# Altium schematic symbol library Gesturelink Schematic Library.SchLib: 48 symbols
Pins are listed as number, name and electrical type; pins without a type are passive.

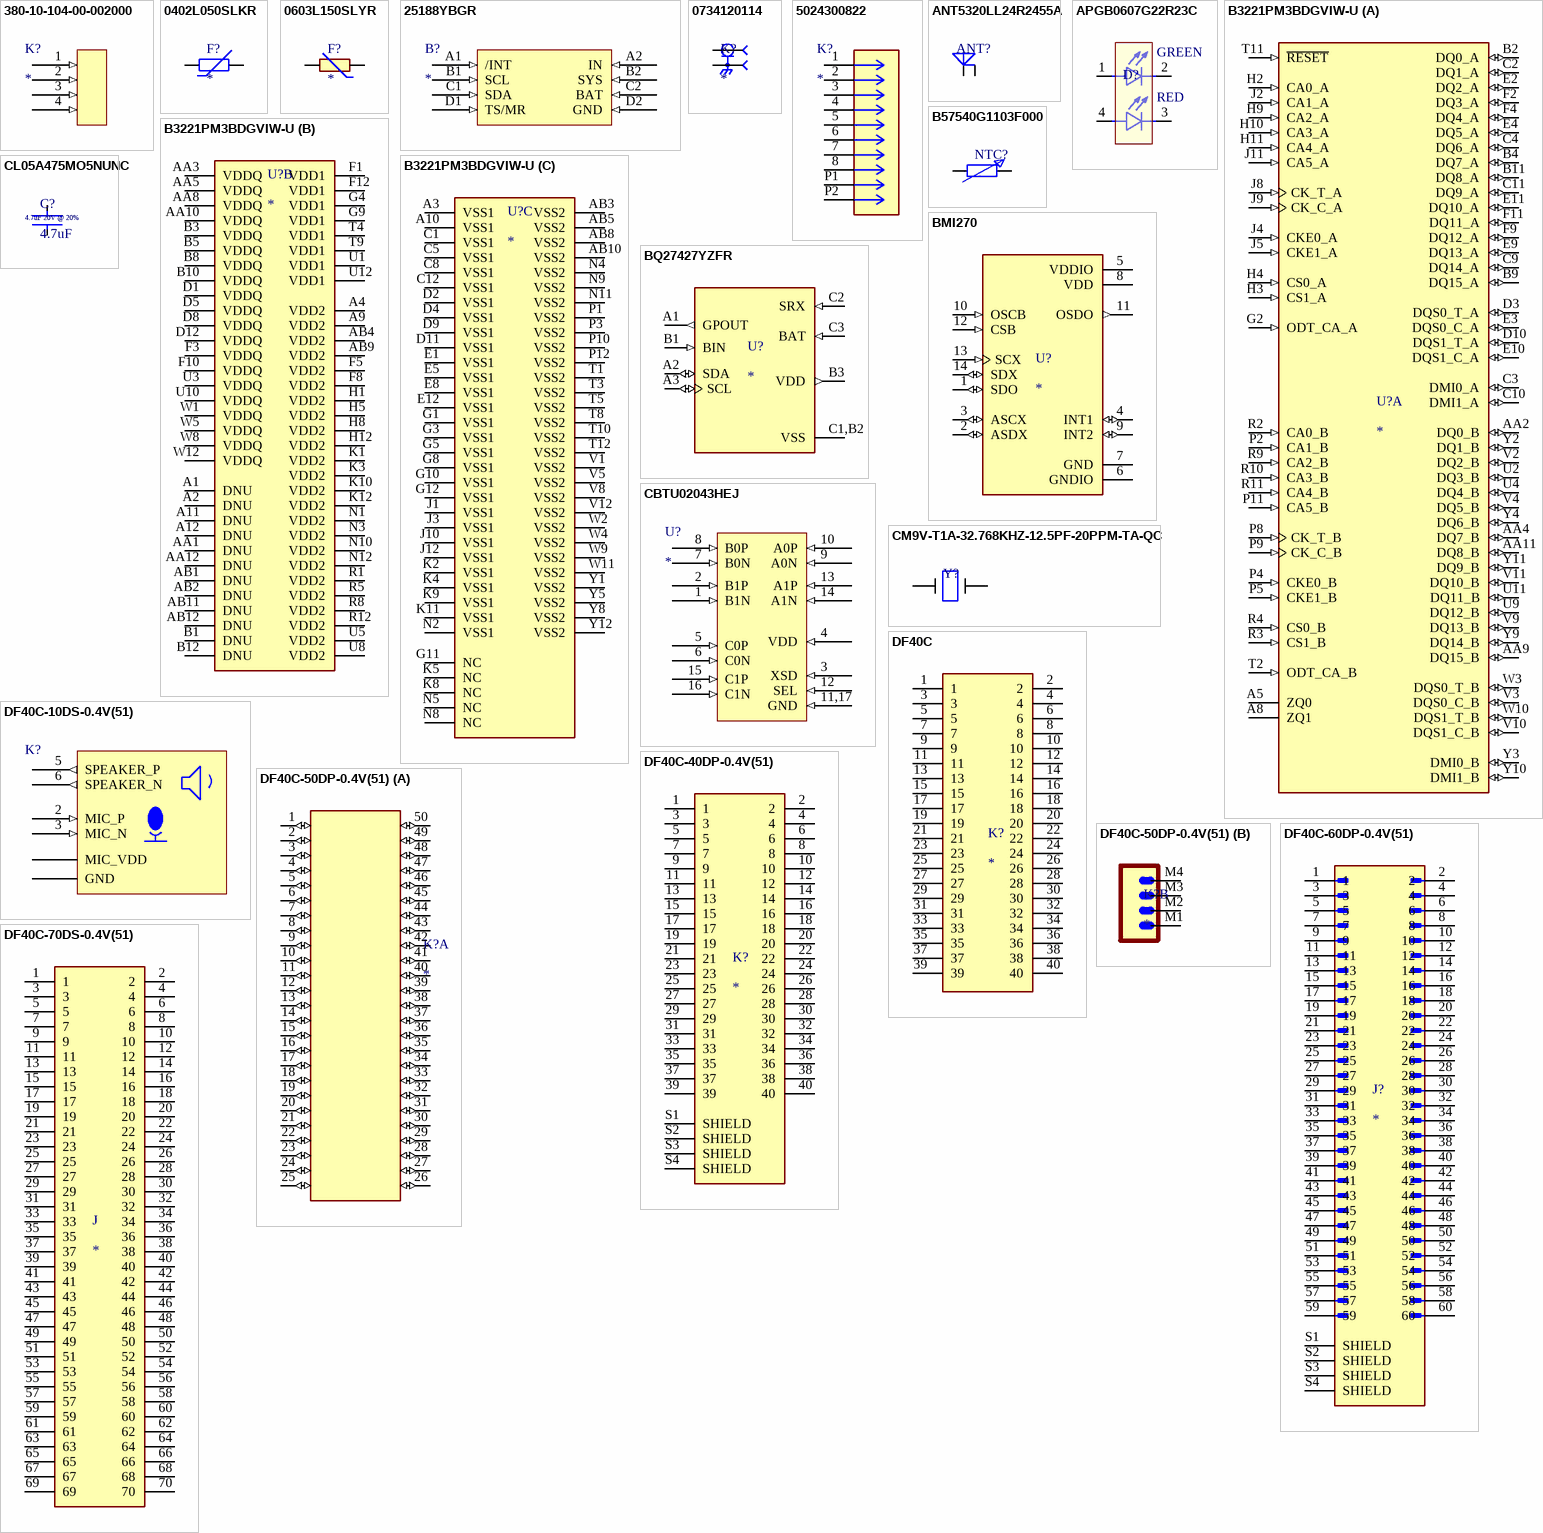
[diagram p0: symbols 380-10-104-00-002000 to DF40C-70DS-0.4V(51)]

## 380-10-104-00-002000
designator K?
4 Position Header Connector Solder Cup Gold; ComponentLink1Description: New link; ComponentLink1URL: https://www.digikey.com.au/en/products/detail/mill-max-manufacturing-corp/380-10-104-00-002000/8019517; Supplier 1: Digikey; Supplier Part Number 1: ED10254-ND
footprint 380-10-104-00-002000
pins: 1 (in), 2 (in), 3 (in), 4 (in)

## 0402L050SLKR
designator F?
Polymeric PTC Resettable Fuse 6V 500 mA Ih Surface Mount 0402 (1005 Metric), Concave; ComponentLink1Description: New link; ComponentLink1URL: https://www.digikey.com.au/en/products/detail/littelfuse-inc/0402L050SLKR/3593837; Supplier 1: Digikey; Supplier Part Number 1: F5759CT-ND
footprint RESC1005X04N (Chip Resistor, Body 1.0x0.5mm, IPC Medium Density (0402 Imperial))
pins: 1, 2

## 0603L150SLYR
designator F?
Polymeric PTC Resettable Fuse 6V 1.5 A Ih Surface Mount 0603 (1608 Metric), Concave; MF: Littelfuse Inc.; MP: 0603L150SLYR; SnapEDA_Link: https://www.snapeda.com/parts/0603L150SLYR/Littelfuse/view-part/?ref=snap; Package: 0603-2 LITTELFUSE; Value: *; Check_prices: https://www.snapeda.com/parts/0603L150SLYR/Littelfuse/view-part/?ref=eda; ComponentLink1Description: New link; ComponentLink1URL: https://www.digikey.com.au/en/products/detail/littelfuse-inc/0603L150SLYR/3429591; Supplier 1: Digikey; Supplier Part Number 1: F5762CT-ND
footprint FUSC1608X100N
pins: 1, 2

## 25188YBGR
designator B?
I2C, 1A single cell linear battery charger, 18V input, powerpath, ship mode and battery tracking; Supplier 1: Mouser; Supplier Part Number 1: 595-BQ25188YBGR
footprint BQ25188
pins: A1 /INT (in), A2 IN (in), B1 SCL (in), B2 SYS (in), C1 SDA (in), C2 BAT (in), D1 TS/MR (in), D2 GND (in)

## 0734120114
designator K?
U.FL (UMCC) Connector Receptacle, Male Pin 50Ohm Surface Mount Solder; MF: Molex; MP: 0734120114; Package: None; SnapEDA_Link: https://www.snapeda.com/parts/0734120114/Molex/view-part/557843/?ref=snap; Price: None; Availability: Unavailable; Value: *
footprint MOLEX_0734120114
pins: 1 SIG, 2 GND (power), 3 GND (power), 4 GND (power)

## 5024300822
designator K?
SlimStack Board-to-Board Plug, 0.40mm Pitch, Surface Mount, Dual Row, Vertical Stacking, 1.00mm Stacking Height, with Solder Tabs, 8 Circuits; MP: 5024300822; Package: None; Price: None; Value: *; Availability: Unavailable; ComponentLink1Description: New link; ComponentLink1URL: https://www.digikey.com.au/en/products/detail/molex/5024300822/9693806; Supplier 1: Mouser; Supplier Part Number 1: 538-50243-00822
footprint 5024300822
pins: 1, 2, 3, 4, 5, 6, 7, 8, P1, P2

## ANT5320LL24R2455A
designator ANT?  (value not drawn)
RF ANTENNA WLAN Chip Solder Surface Mount; Supplier 1: Digikey; Supplier Part Number 1: 311-1547-1-ND
footprint ANT5320LL24R2455A
pins: 1 FEED, 3 GND

## APGB0607G22R23C
designator D?  (value not drawn)
Green, Red 525nm Green, 624nm Red LED Indication - Discrete 2.85V Green, 1.95V Red 4-SMD, No Lead; ComponentLink1Description: New link; ComponentLink1URL: https://www.digikey.com/en/products/detail/kingbright/APGB0607G22R23C/22561020; Supplier 1: Digikey; Supplier Part Number 1: 754-APGB0607G22R23CCT-ND
footprint LED_APGB0607G22R23C
pins: 1 A_GREEN, 2 C_GREEN, 3 C_RED, 4 A_RED
text: GREEN; RED

## B3221PM3BDGVIW-U
designator U?
SDRAM - Mobile LPDDR4 Memory IC 32Gbit Parallel 2.133 GHz 3.5 ns 200-FBGA (10x14.5); MP: Q6422PM3BDGVK-U; Package: None; Price: None; Value: *; Availability: Unavailable; ComponentLink1Description: New link; ComponentLink1URL: https://www.digikey.com.au/en/products/detail/kingston-technology/Q6422PM3BDGVK-U/25321958?gad_source=1&gbraid=0AAAAADrbLlj2-DufyOLmPBQqugpZCYbaj&gclid=Cj0KCQjwzrzABhD8ARIsANlSWNPtBMk-xmUbnWeTZrE8FXO4iVJvRiPTf1MXYD-jc0_9yWwB78P3EFEaAgkvEALw_wcB&gclsrc=aw.ds; Supplier 1: Digikey; Supplier Part Number 1: 5625-Q6422PM3BDGVK-U-ND
footprint Q6422PM3BDGVK-U
ibis D1611PM3BDGxx (Model Description)
part A pins: A5 ZQ0, A8 ZQ1, AA2 DQ0_B (io), AA4 DQ7_B (io), AA9 DQ15_B (io), AA11 DQ8_B (io), B2 DQ0_A (io), B4 DQ7_A (io), B9 DQ15_A (io), B11 DQ8_A (io), C2 DQ1_A (io), C3 DMI0_A (io), C4 DQ6_A (io), C9 DQ14_A (io), C10 DMI1_A (io), C11 DQ9_A (io), D3 DQS0_T_A (io), D10 DQS1_T_A (io), E2 DQ2_A (io), E3 DQS0_C_A (io), E4 DQ5_A (io), E9 DQ13_A (io), E10 DQS1_C_A (io), E11 DQ10_A (io), F2 DQ3_A (io), F4 DQ4_A (io), F9 DQ12_A (io), F11 DQ11_A (io), G2 ODT_CA_A (in), H2 CA0_A (in), H3 CS1_A (in), H4 CS0_A (in), H9 CA2_A (in), H10 CA3_A (in), H11 CA4_A (in), J2 CA1_A (in), J4 CKE0_A (in), J5 CKE1_A (in), J8 CK_T_A (in), J9 CK_C_A (in), J11 CA5_A (in), P2 CA1_B (in), P4 CKE0_B (in), P5 CKE1_B (in), P8 CK_T_B (in), P9 CK_C_B (in), P11 CA5_B (in), R2 CA0_B (in), R3 CS1_B (in), R4 CS0_B (in), R9 CA2_B (in), R10 CA3_B (in), R11 CA4_B (in), T2 ODT_CA_B (in), T11 ~{RESET} (in), U2 DQ3_B (io), U4 DQ4_B (io), U9 DQ12_B (io), U11 DQ11_B (io), V2 DQ2_B (io), V3 DQS0_C_B (io), V4 DQ5_B (io), V9 DQ13_B (io), V10 DQS1_C_B (io), V11 DQ10_B (io), W3 DQS0_T_B (io), W10 DQS1_T_B (io), Y2 DQ1_B (io), Y3 DMI0_B (io), Y4 DQ6_B (io), Y9 DQ14_B (io), Y10 DMI1_B (io), Y11 DQ9_B (io)
part B pins: A1 DNU, A2 DNU, A4 VDD2 (power), A9 VDD2 (power), A11 DNU, A12 DNU, AA1 DNU, AA3 VDDQ (power), AA5 VDDQ (power), AA8 VDDQ (power), AA10 VDDQ (power), AA12 DNU, AB1 DNU, AB2 DNU, AB4 VDD2 (power), AB9 VDD2 (power), AB11 DNU, AB12 DNU, B1 DNU, B3 VDDQ (power), B5 VDDQ (power), B8 VDDQ (power), B10 VDDQ (power), B12 DNU, D1 VDDQ (power), D5 VDDQ (power), D8 VDDQ (power), D12 VDDQ (power), F1 VDD1 (power), F3 VDDQ (power), F5 VDD2 (power), F8 VDD2 (power), F10 VDDQ (power), F12 VDD1 (power), G4 VDD1 (power), G9 VDD1 (power), H1 VDD2 (power), H5 VDD2 (power), H8 VDD2 (power), H12 VDD2 (power), K1 VDD2 (power), K3 VDD2 (power), K10 VDD2 (power), K12 VDD2 (power), N1 VDD2 (power), N3 VDD2 (power), N10 VDD2 (power), N12 VDD2 (power), R1 VDD2 (power), R5 VDD2 (power), R8 VDD2 (power), R12 VDD2 (power), T4 VDD1 (power), T9 VDD1 (power), U1 VDD1 (power), U3 VDDQ (power), U5 VDD2 (power), U8 VDD2 (power), U10 VDDQ (power), U12 VDD1 (power), W1 VDDQ (power), W5 VDDQ (power), W8 VDDQ (power), W12 VDDQ (power)
part C pins: A3 VSS1 (power), A10 VSS1 (power), AB3 VSS2 (power), AB5 VSS2 (power), AB8 VSS2 (power), AB10 VSS2 (power), C1 VSS1 (power), C5 VSS1 (power), C8 VSS1 (power), C12 VSS1 (power), D2 VSS1 (power), D4 VSS1 (power), D9 VSS1 (power), D11 VSS1 (power), E1 VSS1 (power), E5 VSS1 (power), E8 VSS1 (power), E12 VSS1 (power), G1 VSS1 (power), G3 VSS1 (power), G5 VSS1 (power), G8 VSS1 (power), G10 VSS1 (power), G11 NC, G12 VSS1 (power), J1 VSS1 (power), J3 VSS1 (power), J10 VSS1 (power), J12 VSS1 (power), K2 VSS1 (power), K4 VSS1 (power), K5 NC, K8 NC, K9 VSS1 (power), K11 VSS1 (power), N2 VSS1 (power), N4 VSS2 (power), N5 NC, N8 NC, N9 VSS2 (power), N11 VSS2 (power), P1 VSS2 (power), P3 VSS2 (power), P10 VSS2 (power), P12 VSS2 (power), T1 VSS2 (power), T3 VSS2 (power), T5 VSS2 (power), T8 VSS2 (power), T10 VSS2 (power), T12 VSS2 (power), V1 VSS2 (power), V5 VSS2 (power), V8 VSS2 (power), V12 VSS2 (power), W2 VSS2 (power), W4 VSS2 (power), W9 VSS2 (power), W11 VSS2 (power), Y1 VSS2 (power), Y5 VSS2 (power), Y8 VSS2 (power), Y12 VSS2 (power)

## B57540G1103F000
designator NTC?  (value not drawn)
NTC Thermistor 10k Bead, Glass; Supplier 1: DigiKey; Supplier Part Number 1: 495-5054-ND
footprint B57540G1103F000
pins: 1, 2

## BMI270
designator U?
Accelerometer, Gyroscope, 6 Axis Sensor IÂ²C, SPI Output; MP: BMI270; MF: Bosch Sensortec; Digi-Key_Part_Number: 828-1091-2-ND; Check_prices: https://www.snapeda.com/parts/BMI270/Bosch+Sensortec/view-part/?ref=eda; Package: LGA-14 Bosch Sensortec; SnapEDA_Link: https://www.snapeda.com/parts/BMI270/Bosch+Sensortec/view-part/?ref=snap; Value: *; Purchase-URL: https://pricing.snapeda.com/search/part/BMI270/?ref=eda; Supplier 1: Digikey; Supplier Part Number 1: 828-1091-1-ND
footprint XDCR_BMI270
pins: 1 SDO (io), 2 ASDX (io), 3 ASCX (io), 4 INT1 (io), 5 VDDIO (power), 6 GNDIO (power), 7 GND (power), 8 VDD (power), 9 INT2 (io), 10 OSCB (in), 11 OSDO (out), 12 CSB (in), 13 SCX (in), 14 SDX (io)

## BQ27427YZFR
designator U?
Single-cell battery fuel gauge with pre-programmed chemistry and integrated sense resistor; MF: Texas Instruments; MP: BQ27427YZFR; SnapEDA_Link: https://www.snapeda.com/parts/BQ27427YZFR/Texas+Instruments/view-part/?ref=snap; Package: None; Value: *; Check_prices: https://www.snapeda.com/parts/BQ27427YZFR/Texas+Instruments/view-part/?ref=eda; Supplier 1: Mouser; Supplier Part Number 1: 595-BQ27427YZFR
footprint BQ27427YZFR
pins: A1 GPOUT (out), A2 SDA (io), A3 SCL (io), B1 BIN (in), B3 VDD (out), C1,B2 VSS (power), C2 SRX (in), C3 BAT (in)

## CBTU02043HEJ
designator U?
USB Switch IC 2 Channel 16-HUQFN (1.6x2.4); Supplier 1: Arrow Electronics; Supplier Part Number 1: CBTU02043HEJ
footprint CBTU02043HEJ
pins: 1 B1N (in), 2 B1P (in), 3 XSD (in), 4 VDD (in), 5 C0P (in), 6 C0N (in), 7 B0N (in), 8 B0P (in), 9 A0N (in), 10 A0P (in), 11,17 GND (in), 12 SEL (in), 13 A1P (in), 14 A1N (in), 15 C1P (in), 16 C1N (in)

## CL05A475MO5NUNC
designator C?, comment 4.7uF
4.7 µF ±20% 16V Ceramic Capacitor X5R 0402 (1005 Metric); Supplier 1: Avnet; Supplier Part Number 1: 82AC9197
footprint CAPC1005X06L (Chip Capacitor, Body 1.0x0.5mm, IPC High Density (0402 Imperial))
pins: 1, 2
text: 4.7uF 20V @ 20%

## CM9V-T1A-32.768KHZ-12.5PF-20PPM-TA-QC
designator Y?  (value not drawn)
32.768 kHz ±20ppm Crystal 12.5pF 75 kOhms 2-SMD, No Lead; Supplier 1: Digikey; Supplier Part Number 1: 2195-CM9V-T1A-32.768KHZ-12.5PF-20PPM-TA-QCCT-ND
footprint XTAL_CM9V-T1A-32.768KHZ-12.5PF-20PPM-TA-QC
pins: 1, 2

## DF40C
designator K?
40 Position Connector Receptacle, Center Strip Contacts Surface Mount Gold; Supplier 1: Avnet; Supplier Part Number 1: DF40C-40DS-0.4V(51)
footprint HIROSE_DF40C-40DS-0.4V(51)
pins: 1, 2, 3, 4, 5, 6, 7, 8, 9, 10, 11, 12, 13, 14, 15, 16, 17, 18, 19, 20, 21, 22, 23, 24, 25, 26, 27, 28, 29, 30, 31, 32, 33, 34, 35, 36, 37, 38, 39, 40

## DF40C-10DS-0.4V(51)
designator K?  (value not drawn)
10 Position Connector Plug, Outer Shroud Contacts Surface Mount Gold; ComponentLink1Description: New link; ComponentLink1URL: https://www.digikey.com.au/en/products/detail/hirose-electric-co-ltd/DF40C-10DP-0-4V-51/1969496; Supplier 1: Digikey; Supplier Part Number 1: H11616CT-ND
footprint DF40C-10DS-0.4V(51)
pins: 1,4,7,8,9,12,13,14 GND (power), 2 MIC_P (in), 3 MIC_N (in), 5 SPEAKER_P (out), 6 SPEAKER_N (out), 10,11 MIC_VDD (power)

## DF40C-40DP-0.4V(51)
designator K?
40 Position Connector Plug, Outer Shroud Contacts Surface Mount Gold; MF: Hirose Electric; MP: DF40C-40DP-0.4V_51_; Digi-Key_Part_Number: H11624CT-ND; Package: None; Digi-Key_Purchase_URL: https://www.digikey.com/product-detail/en/hirose-electric-co-ltd/DF40C-40DP-0.4V_51_/H11624CT-ND/1969504?utm_source=snapeda&utm_medium=aggregator&utm_campaign=symbol; SnapEDA_Link: https://www.snapeda.com/parts/DF40C-40DP-0.4V%2851%29/Hirose%20Electric%20Co%20Ltd/view-part/188794/?ref=snap; Value: *; ComponentLink1Description: New link; ComponentLink1URL: https://www.digikey.com.au/en/products/detail/hirose-electric-co-ltd/DF40C-40DP-0-4V-51/1969504
footprint HRS_DF40C-40DP-0.4V(51)
pins: 1, 2, 3, 4, 5, 6, 7, 8, 9, 10, 11, 12, 13, 14, 15, 16, 17, 18, 19, 20, 21, 22, 23, 24, 25, 26, 27, 28, 29, 30, 31, 32, 33, 34, 35, 36, 37, 38, 39, 40, S1 SHIELD, S2 SHIELD, S3 SHIELD, S4 SHIELD

## DF40C-50DP-0.4V(51)
designator K?
50 Position Connector Plug, Outer Shroud Contacts Surface Mount Gold; MF: Hirose Electric Co Ltd; MP: DF40C-50DP-0.4V(51); SnapEDA_Link: https://www.snapeda.com/parts/DF40C-50DP-0.4V(51)/Hirose/view-part/?ref=snap; Package: None; Value: *; Check_prices: https://www.snapeda.com/parts/DF40C-50DP-0.4V(51)/Hirose/view-part/?ref=eda; Supplier 1: Digikey; Supplier Part Number 1: H11626CT-ND
footprint DF40C-50DS-0.4V(51) (50 Position Connector Receptacle, Center Strip Contacts Surface Mount Gold)
part A pins: 1 P$1 (io), 2 P$2 (io), 3 P$3 (io), 4 P$4 (io), 5 P$5 (io), 6 P$6 (io), 7 P$7 (io), 8 P$8 (io), 9 P$9 (io), 10 P$10 (io), 11 P$11 (io), 12 P$12 (io), 13 P$13 (io), 14 P$14 (io), 15 P$15 (io), 16 P$16 (io), 17 P$17 (io), 18 P$18 (io), 19 P$19 (io), 20 P$20 (io), 21 P$21 (io), 22 P$22 (io), 23 P$23 (io), 24 P$24 (io), 25 P$25 (io), 26 P$26 (io), 27 P$27 (io), 28 P$28 (io), 29 P$29 (io), 30 P$30 (io), 31 P$31 (io), 32 P$32 (io), 33 P$33 (io), 34 P$34 (io), 35 P$35 (io), 36 P$36 (io), 37 P$37 (io), 38 P$38 (io), 39 P$39 (io), 40 P$40 (io), 41 P$41 (io), 42 P$42 (io), 43 P$43 (io), 44 P$44 (io), 45 P$45 (io), 46 P$46 (io), 47 P$47 (io), 48 P$48 (io), 49 P$49 (io), 50 P$50 (io)
part B pins: M1 1, M2 2, M3 3, M4 4

## DF40C-60DP-0.4V(51)
designator J?
60 Position Connector Plug, Outer Shroud Contacts Surface Mount Gold; MF: Hirose Electric; MP: DF40C-60DP-0.4V(51); Value: *; Purchase-URL: https://pricing.snapeda.com/search/part/DF40C-60DP-0.4V(51)/?ref=eda; Price: None; Package: None; Availability: In Stock; SnapEDA_Link: https://www.snapeda.com/parts/DF40C-60DP-0.4V(51)/Hirose+Electric+Co+Ltd/view-part/?ref=snap; Check_prices: https://www.snapeda.com/parts/DF40C-60DP-0.4V(51)/Hirose+Electric+Co+Ltd/view-part/?ref=eda; Supplier 1: Digikey; Supplier Part Number 1: H11628CT-ND
footprint HIROSE_DF40C-60DP-0.4V(51)
pins: 1, 2, 3, 4, 5, 6, 7, 8, 9, 10, 11, 12, 13, 14, 15, 16, 17, 18, 19, 20, 21, 22, 23, 24, 25, 26, 27, 28, 29, 30, 31, 32, 33, 34, 35, 36, 37, 38, 39, 40, 41, 42, 43, 44, 45, 46, 47, 48, 49, 50, 51, 52, 53, 54, 55, 56, 57, 58, 59, 60, S1 SHIELD, S2 SHIELD, S3 SHIELD, S4 SHIELD

## DF40C-70DS-0.4V(51)
designator J
70 Position Connector Receptacle, Center Strip Contacts Surface Mount Gold; MP: DF40C-70DS-0.4V_51_; MF: Hirose; Package: None; SnapEDA_Link: https://www.snapeda.com/parts/DF40C-70DS-0.4V%2851%29/Hirose%20Electric%20Co%20Ltd/view-part/50152/?ref=snap; Price: None; Value: *; Availability: Unavailable
footprint HIROSE_DF40C-70DS-0.4V(51)
pins: 1, 2, 3, 4, 5, 6, 7, 8, 9, 10, 11, 12, 13, 14, 15, 16, 17, 18, 19, 20, 21, 22, 23, 24, 25, 26, 27, 28, 29, 30, 31, 32, 33, 34, 35, 36, 37, 38, 39, 40, 41, 42, 43, 44, 45, 46, 47, 48, 49, 50, 51, 52, 53, 54, 55, 56, 57, 58, 59, 60, 61, 62, 63, 64, 65, 66, 67, 68, 69, 70

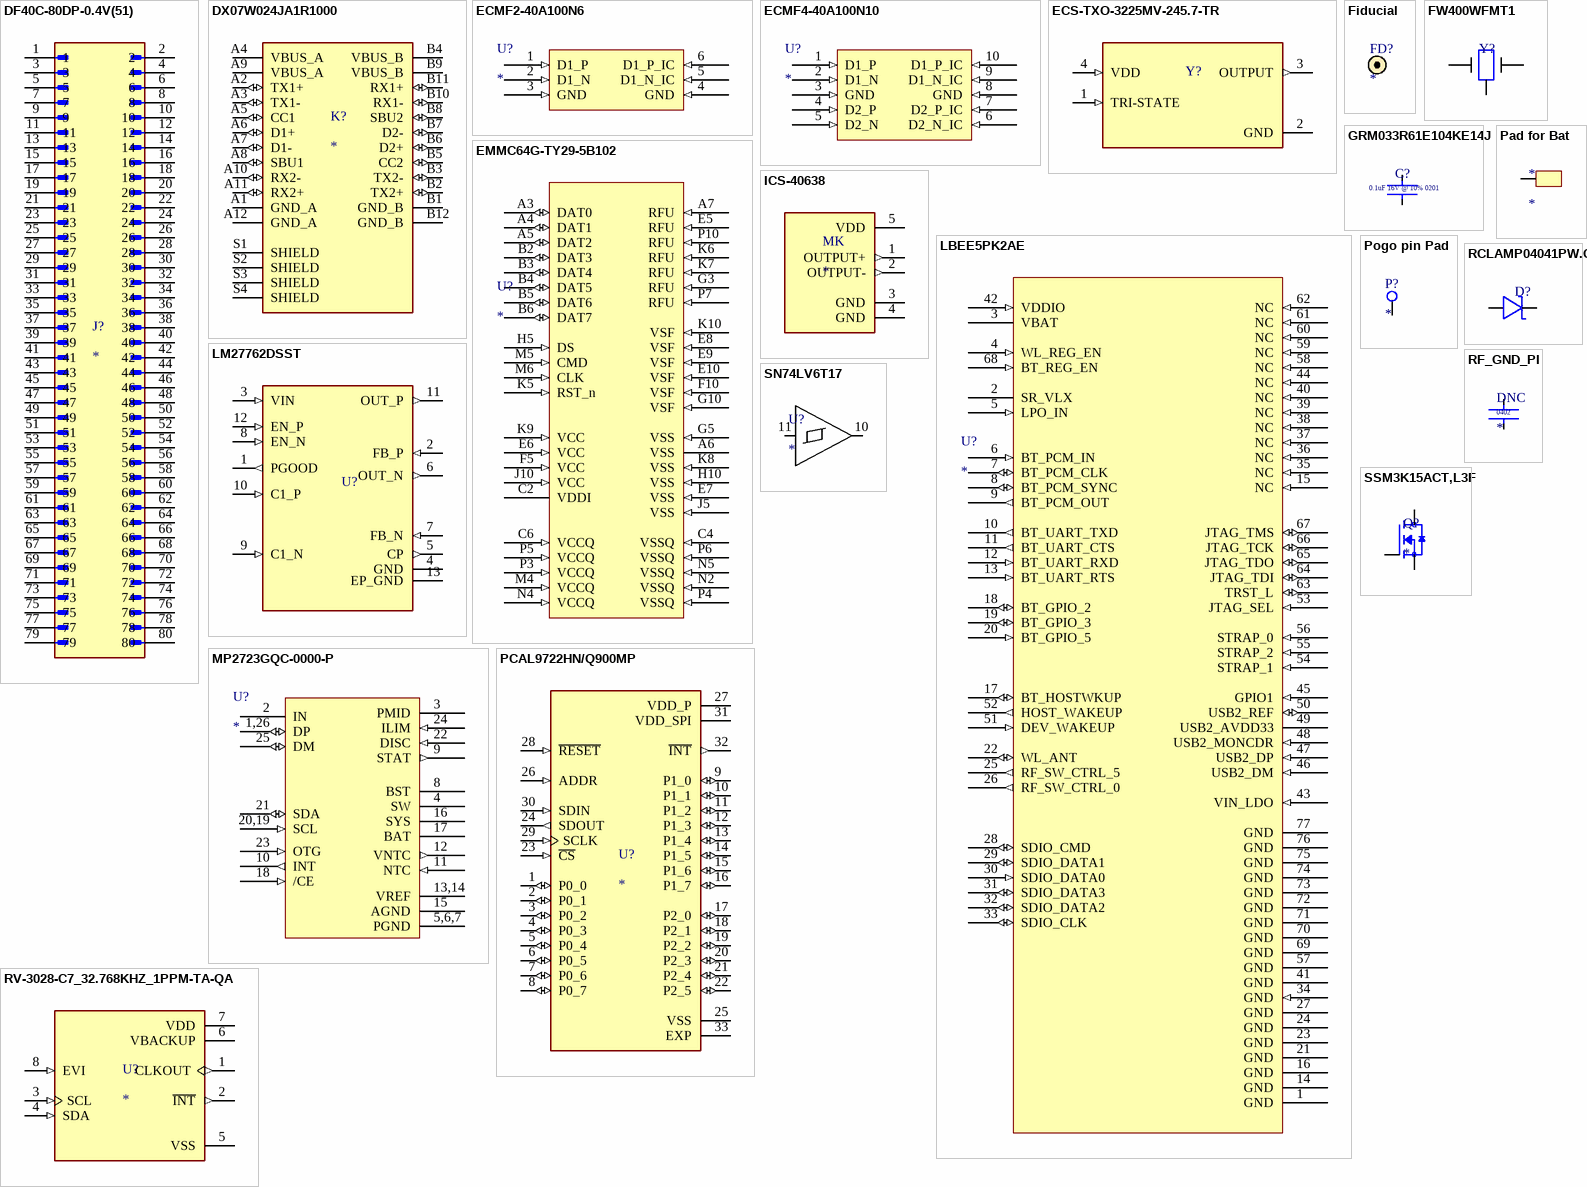
[diagram p1: symbols DF40C-80DP-0.4V(51) to SSM3K15ACT,L3F]

## DF40C-80DP-0.4V(51)
designator J?
80 Position Connector Plug, Outer Shroud Contacts Surface Mount Gold; MF: Hirose Electric; MP: DF40C-80DP-0.4V(51); SnapEDA_Link: https://www.snapeda.com/parts/DF40C-80DP-0.4V(51)/Hirose/view-part/?ref=snap; Package: None; Value: *; Check_prices: https://www.snapeda.com/parts/DF40C-80DP-0.4V(51)/Hirose/view-part/?ref=eda
footprint HRS_DF40C-80DP-0.4V(51)
pins: 1, 2, 3, 4, 5, 6, 7, 8, 9, 10, 11, 12, 13, 14, 15, 16, 17, 18, 19, 20, 21, 22, 23, 24, 25, 26, 27, 28, 29, 30, 31, 32, 33, 34, 35, 36, 37, 38, 39, 40, 41, 42, 43, 44, 45, 46, 47, 48, 49, 50, 51, 52, 53, 54, 55, 56, 57, 58, 59, 60, 61, 62, 63, 64, 65, 66, 67, 68, 69, 70, 71, 72, 73, 74, 75, 76, 77, 78, 79, 80

## DX07W024JA1R1000
designator K?
USB-C (USB TYPE-C) USB 3.2 Gen 2 (USB 3.1 Gen 2, Superspeed + (USB 3.1)) Receptacle Connector 24 Position Board Edge, Surface Mount, Right Angle; MF: JAE Electronics; MP: DX07W024JA1R1000; SnapEDA_Link: https://www.snapeda.com/parts/DX07W024JA1R1000/JAE+Electronics/view-part/?ref=snap; Package: None; Value: *; Check_prices: https://www.snapeda.com/parts/DX07W024JA1R1000/JAE+Electronics/view-part/?ref=eda; ComponentLink1Description: New link; ComponentLink1URL: https://www.digikey.com.au/en/products/detail/jae-electronics/DX07W024JA1R1000/9646471; Supplier 1: Digikey; Supplier Part Number 1: 670-3100-1-ND
footprint JAE_DX07W024JA1R1000
pins: A1 GND_A (power), A2 TX1+ (io), A3 TX1- (io), A4 VBUS_A (power), A5 CC1 (io), A6 D1+ (io), A7 D1- (io), A8 SBU1 (io), A9 VBUS_A (power), A10 RX2- (io), A11 RX2+ (io), A12 GND_A (power), B1 GND_B (power), B2 TX2+ (io), B3 TX2- (io), B4 VBUS_B (power), B5 CC2 (io), B6 D2+ (io), B7 D2- (io), B8 SBU2 (io), B9 VBUS_B (power), B10 RX1- (io), B11 RX1+ (io), B12 GND_B (power), S1 SHIELD, S2 SHIELD, S3 SHIELD, S4 SHIELD

## ECMF2-40A100N6
designator U?
2 Line Common Mode Choke Surface Mount 100mA DCR 3Ohm (Typ); Supplier 1: Arrow Electronics; Supplier Part Number 1: ECMF2-40A100N6
footprint ECMF2-40A100N6
pins: 1 D1_P (in), 2 D1_N (in), 3 GND (in), 4 GND (in), 5 D1_N_IC (in), 6 D1_P_IC (in)

## ECMF4-40A100N10
designator U?
4 Line Common Mode Choke Surface Mount 100mA DCR 3Ohm (Typ); ComponentLink1Description: New link; ComponentLink1URL: https://www.digikey.com/en/products/detail/stmicroelectronics/ECMF4-40A100N10/16379603; Supplier 1: Arrow Electronics; Supplier Part Number 1: ECMF4-40A100N10
footprint ECMF4-40A100N10 (SON, 10-Leads, Body 2.20x1.35mm, Pitch 0.40mm, Thermal Pad 0.00x0.00mm, IPC Medium Density)
pins: 1 D1_P (in), 2 D1_N (in), 3 GND (in), 4 D2_P (in), 5 D2_N (in), 6 D2_N_IC (in), 7 D2_P_IC (in), 8 GND (in), 9 D1_N_IC (in), 10 D1_P_IC (in)

## ECS-TXO-3225MV-245.7-TR
designator Y?
TCXO Oscillators 24.576 MHZ Multi-Volt +1.7 3.6V HCMOS TCXO +/-2.5 ppm -30 +85 C 3.2x 2.5mm RoHS; MF: ECS; MP: ECS-TXO-3225MV-245.7-TR; SnapEDA_Link: https://www.snapeda.com/parts/ECS-TXO-3225MV-245.7-TR/ECS/view-part/?ref=snap; Package: ECS-TXO-3225MV-0-4 ECS; Value: *; Check_prices: https://www.snapeda.com/parts/ECS-TXO-3225MV-245.7-TR/ECS/view-part/?ref=eda; ComponentLink1Description: New link; ComponentLink1URL: https://www.digikey.com.au/en/products/detail/ecs-inc/ECS-TXO-3225MV-245-7-TR/16578392?s=N4IgjCBcpgHAzFUBjKAzAhgGwM4FMAaEAeygG0QAWMABgDYAmOkAXSIAcAXKEAZU4BOASwB2AcxABfIgwDszaCFSRMuQiXIg6YeDRqsO3SH0GiJ08AE5YlpEvTZ8RUpAr6WFhmACs%2BxctUnDVcQBkoAOm95AAIAWQAJAC8DEC4eAFURIU4AeTRYvAwcAFcBPClJSSA
footprint OSC_ECS-TXO-3225MV-245.7-TR
pins: 1 TRI-STATE (in), 2 GND (power), 3 OUTPUT (out), 4 VDD (in)

## EMMC64G-TY29-5B102
designator U?
eMMC pSLC eMMC 5.1 (HS400) 153B 64GB; Supplier 1: Digikey; Supplier Part Number 1: 5625-EMMC64G-TY29-5B102-ND
footprint EMMC64G-TY29-5B102
pins: A3 DAT0 (io), A4 DAT1 (io), A5 DAT2 (io), A6 VSS (power), A7 RFU (in), B2 DAT3 (io), B3 DAT4 (io), B4 DAT5 (io), B5 DAT6 (io), B6 DAT7 (io), C2 VDDI (power), C4 VSSQ (in), C6 VCCQ (in), E5 RFU (in), E6 VCC (in), E7 VSS (in), E8 VSF (in), E9 VSF (in), E10 VSF (in), F5 VCC (in), F10 VSF (in), G3 RFU (in), G5 VSS (in), G10 VSF (in), H5 DS (in), H10 VSS (in), J5 VSS (in), J10 VCC (in), K5 RST_n (in), K6 RFU (in), K7 RFU (in), K8 VSS (in), K9 VCC (in), K10 VSF (in), M4 VCCQ (in), M5 CMD (in), M6 CLK (in), N2 VSSQ (in), N4 VCCQ (in), N5 VSSQ (in), P3 VCCQ (in), P4 VSSQ (in), P5 VCCQ (in), P6 VSSQ (in), P7 RFU (in), P10 RFU (in)

## Fiducial
designator FD?
Fiducial
footprint Fiducial

## FW400WFMT1
designator Y?  (value not drawn)
40 MHz ±7ppm Crystal 12pF 80 Ohms 4-SMD, No Lead; Supplier 1: Digikey; Supplier Part Number 1: FW400WFMT1CT-ND
footprint FW400WFMT1
pins: 1, 3 2, 4,2 3

## GRM033R61E104KE14J
designator C?, comment 0.1uF  (value not drawn)
0.1 µF ±10% 25V Ceramic Capacitor X5R 0201 (0603 Metric)0.1 µF ±10% 25V Ceramic Capacitor X5R 0201 (0603 Metric); Supplier 1: Mouser; Supplier Part Number 1: 81-GRM033R61E104KE4J
footprint CAPC0603X03L (Chip Capacitor, Body 0.6x0.3mm, IPC High Density (0201 Imperial))
pins: 1, 2
text: 0.1uF 16V @ 10% 0201

## ICS-40638
designator MK
DIFFERENTIAL ANALOG OUTPUT MEMS; MF: TDK InvenSense; MP: ICS-40638; Value: *; Availability: Warning; Package: None; DigiKey-Purchase-URL: https://snapeda.com/shop?store=DigiKey&id=4901100; SnapEDA_Link: https://www.snapeda.com/parts/ICS-40638/TDK%20InvenSense/view-part/4901100/?ref=snap; Mouser-Purchase-URL: https://snapeda.com/shop?store=Mouser&id=4901100; Price: None; ComponentLink1Description: New link; ComponentLink1URL: https://www.digikey.com.au/en/products/detail/tdk-invensense/ICS-40638/13143430?srsltid=AfmBOoqHpj5lDoEu5LI03IEJMj9LWSsXSZEkzf39p6Y3G9t2Yn93yHzF; Supplier 1: Mouser; Supplier Part Number 1: 410-ICS-40638
footprint MIC_ICS-40638
pins: 1 OUTPUT+ (out), 2 OUTPUT- (out), 3 GND (power), 4 GND (power), 5 VDD (power)

## LBEE5PK2AE
designator U?
Bluetooth, WiFi 802.11a/b/g/n/ac, Bluetooth v5.2 Transceiver Module 2.412GHz ~ 2.472GHz, 5.18GHz ~ 5.825GHz Surface Mount; Supplier 1: Digikey; Supplier Part Number 1: 490-LBEE5PK2AE-564CT-ND
footprint LBEE5PK2AE
pins: 1 GND (power), 2 SR_VLX (power), 3 VBAT (power), 4 WL_REG_EN (in), 5 LPO_IN (in), 6 BT_PCM_IN (in), 7 BT_PCM_CLK (io), 8 BT_PCM_SYNC (io), 9 BT_PCM_OUT (out), 10 BT_UART_TXD (out), 11 BT_UART_CTS (out), 12 BT_UART_RXD (in), 13 BT_UART_RTS (in), 14 GND (power), 15 NC (in), 16 GND (power), 17 BT_HOSTWKUP (io), 18 BT_GPIO_2 (io), 19 BT_GPIO_3 (io), 20 BT_GPIO_5 (in), 21 GND (power), 22 WL_ANT (io), 23 GND (power), 24 GND (power), 25 RF_SW_CTRL_5 (out), 26 RF_SW_CTRL_0 (out), 27 GND (power), 28 SDIO_CMD (io), 29 SDIO_DATA1 (io), 30 SDIO_DATA0 (in), 31 SDIO_DATA3 (io), 32 SDIO_DATA2 (io), 33 SDIO_CLK (io), 34 GND (in), 35 NC (in), 36 NC (in), 37 NC (in), 38 NC (in), 39 NC (in), 40 NC (in), 41 GND (power), 42 VDDIO (in), 43 VIN_LDO (in), 44 NC (in), 45 GPIO1 (in), 46 USB2_DM (in), 47 USB2_DP (in), 48 USB2_MONCDR (in), 49 USB2_AVDD33 (power), 50 USB2_REF (io), 51 DEV_WAKEUP (in), 52 HOST_WAKEUP (out), 53 JTAG_SEL (in), 54 STRAP_1 (in), 55 STRAP_2 (in), 56 STRAP_0 (in), 57 GND (power), 58 NC (in), 59 NC (in), 60 NC (in), 61 NC (in), 62 NC (in), 63 TRST_L (io), 64 JTAG_TDI (io), 65 JTAG_TDO (io), 66 JTAG_TCK (io), 67 JTAG_TMS (io), 68 BT_REG_EN (in), 69 GND (power), 70 GND (power), 71 GND (power), 72 GND (power), 73 GND (power), 74 GND (power), 75 GND (power), 76 GND (power), 77 GND (power)

## LM27762DSST
designator U?  (value not drawn)
Charge Pump Switching Regulator IC Positive and Negative (Dual Rail) Adjustable -5V, 1.5V 2 - Dual Output 250mA 12-WFDFN Exposed Pad; ComponentLink1Description: New link; ComponentLink1URL: https://www.digikey.com/en/products/detail/texas-instruments/LM27762DSSR/6235195; Supplier 1: Mouser; Supplier Part Number 1: 595-LM27762DSST
footprint VREG_LM27762DSSR
simulation model SWITCH_ARRAY_U_SW_ARRAY_S11 (Model Description)
pins: 1 PGOOD (out), 2 FB_P (in), 3 VIN (in), 4 GND (power), 5 CP (out), 6 OUT_N (out), 7 FB_N (in), 8 EN_N (in), 9 C1_N (in), 10 C1_P (in), 11 OUT_P (out), 12 EN_P (in), 13 EP_GND (power)

## MP2723GQC-0000-P
designator U?
3A, I2C-Controlled SW Charger with NVDC Power Path and USB OTG
footprint MP2723GQC-0000-P (Charger IC Lithium Ion/Polymer 26-QFN (3.5x3.5))
pins: 1,26 DP (io), 2 IN (power), 3 PMID (power), 4 SW (power), 5,6,7 PGND (power), 8 BST (power), 9 STAT (out), 10 INT (out), 11 NTC (in), 12 VNTC (out), 13,14 VREF (power), 15 AGND (power), 16 SYS (power), 17 BAT (power), 18 /CE (in), 20,19 SCL (in), 21 SDA (io), 22 DISC (in), 23 OTG (in), 24 ILIM (in), 25 DM (io)

## Pad for Bat
designator *
footprint Pad for Bat
pins: 1

## PCAL9722HN/Q900MP
designator U?
MF: {'manufacturer': u'NXP Semiconductors'}; MP: PCAL9722HN/Q900MP; Package: None; Price: None; Value: *; Availability: Unavailable
footprint IC_PCAL9722HN/Q900MP
pins: 1 P0_0 (io), 2 P0_1 (io), 3 P0_2 (io), 4 P0_3 (io), 5 P0_4 (io), 6 P0_5 (io), 7 P0_6 (io), 8 P0_7 (io), 9 P1_0 (io), 10 P1_1 (io), 11 P1_2 (io), 12 P1_3 (io), 13 P1_4 (io), 14 P1_5 (io), 15 P1_6 (io), 16 P1_7 (io), 17 P2_0 (io), 18 P2_1 (io), 19 P2_2 (io), 20 P2_3 (io), 21 P2_4 (io), 22 P2_5 (io), 23 ~{CS} (in), 24 SDOUT (out), 25 VSS (power), 26 ADDR (in), 27 VDD_P (power), 28 ~{RESET} (in), 29 SCLK (in), 30 SDIN (in), 31 VDD_SPI (power), 32 ~{INT} (out), 33 EXP

## Pogo pin Pad
designator P?
Contact Spring Surface Mount
footprint S70-220101045R
pins: 1

## RCLAMP04041PW.C
designator D?  (value not drawn)
8V Clamp 20A (8/20µs) Ipp Tvs Diode Surface Mount 2-DFN (1x0.6); ComponentLink1Description: New link; ComponentLink1URL: https://www.digikey.com.au/en/products/detail/semtech-corporation/RCLAMP04041PW-C/21379403; Supplier 1: Digikey; Supplier Part Number 1: 600-RCLAMP04041PW.CCT-ND
footprint RCLAMP04041PW.C
pins: 1 16, 2 16

## RF_GND_PI
designator DNC
Pi filter chip antenna, Do not connect!
footprint CAPC1005X06L (Chip Capacitor, Body 1.0x0.5mm, IPC High Density (0402 Imperial))
pins: 1, 2
text: 0402

## RV-3028-C7_32.768KHZ_1PPM-TA-QA
designator U?
Real Time Clock (RTC) IC Clock/Calendar 2B, 43B IÂ²C, 2-Wire Serial 8-WCDFN; MF: Micro Crystal; MP: RV-3028-C7 32.768KHZ 1PPM-TA-QA; SnapEDA_Link: https://www.snapeda.com/parts/RV-3028-C7%2032.768KHZ%201PPM-TA-QA/Micro+Crystal/view-part/?ref=snap; Package: QFN-8 Micro Crystal; Value: *; Check_prices: https://www.snapeda.com/parts/RV-3028-C7%2032.768KHZ%201PPM-TA-QA/Micro+Crystal/view-part/?ref=eda; ComponentLink1Description: New link; Supplier 1: Digikey; Supplier Part Number 1: 2195-RV-3028-C732.768KHZ1PPM-TA-QACT-ND
footprint RV-3028-C7_32.768KHZ_1PPM-TA-QA
pins: 1 CLKOUT (out), 2 ~{INT} (out), 3 SCL (in), 4 SDA (in), 5 VSS (power), 6 VBACKUP (power), 7 VDD (power), 8 EVI (in)

## SN74LV6T17
designator U?
Buffer, Non-Inverting 6 Element 1 Bit per Element Push-Pull Output 14-WQFN (3x2.5); ComponentLink1Description: New link; ComponentLink1URL: Buffer, Non-Inverting 6 Element 1 Bit per Element Push-Pull Output 14-WQFN (3x2.5); Supplier 1: Mouser; Supplier Part Number 1: 595-SN74LV6T17BQAR
footprint SN74LV6T17BQAR
pins: 10 13, 11

## SSM3K15ACT,L3F
designator Q?
N-Channel 30 V 100mA (Ta) 100mW (Ta) Surface Mount CST3; ComponentLink1Description: New link; ComponentLink1URL: https://www.digikey.com.au/en/products/detail/toshiba-semiconductor-and-storage/SSM3K15ACT-L3F/5298026; Supplier 1: Digikey; Supplier Part Number 1: SSM3K15ACTL3FCT-ND
footprint SSM3K15ACT
pins: 1 G, 2 D, 3 S

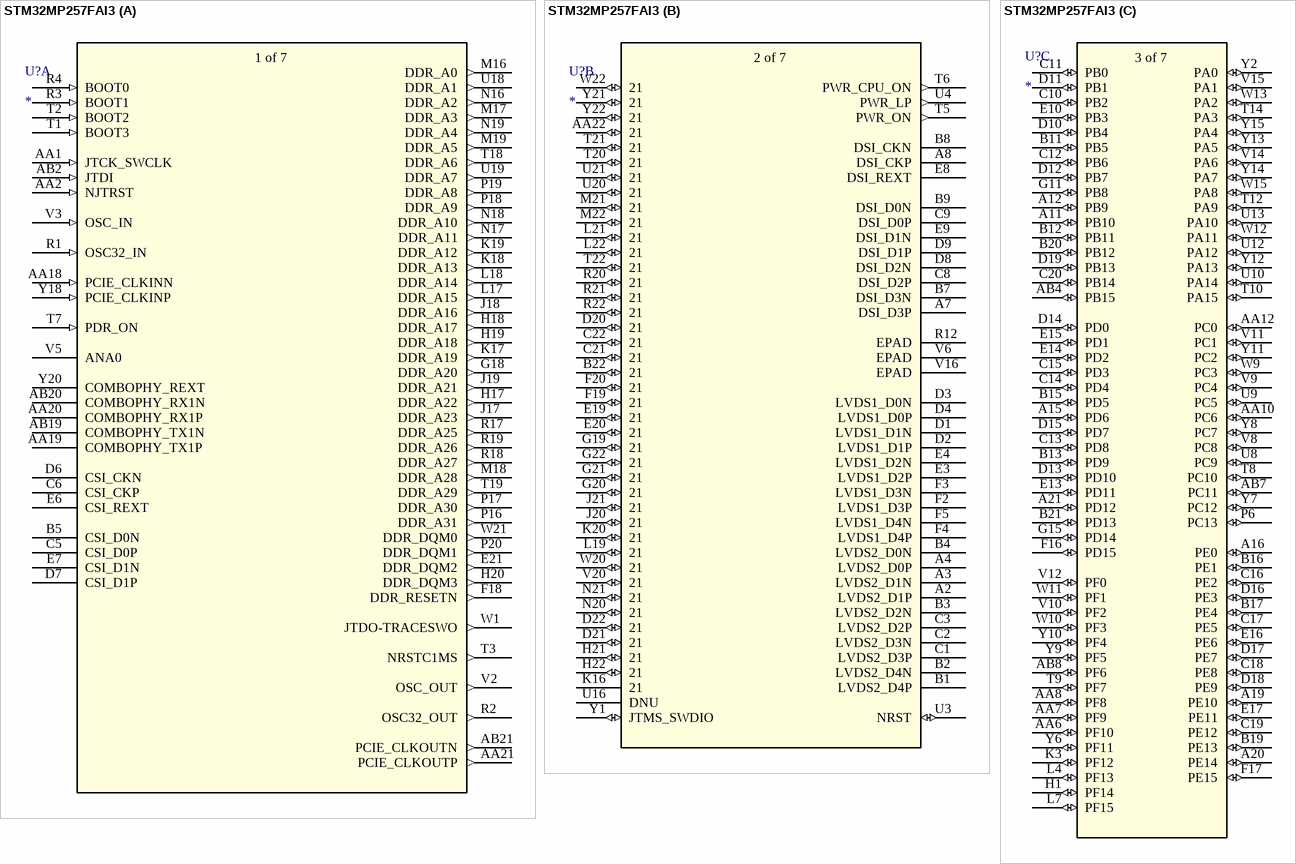
[diagram p2: symbol STM32MP257FAI3]

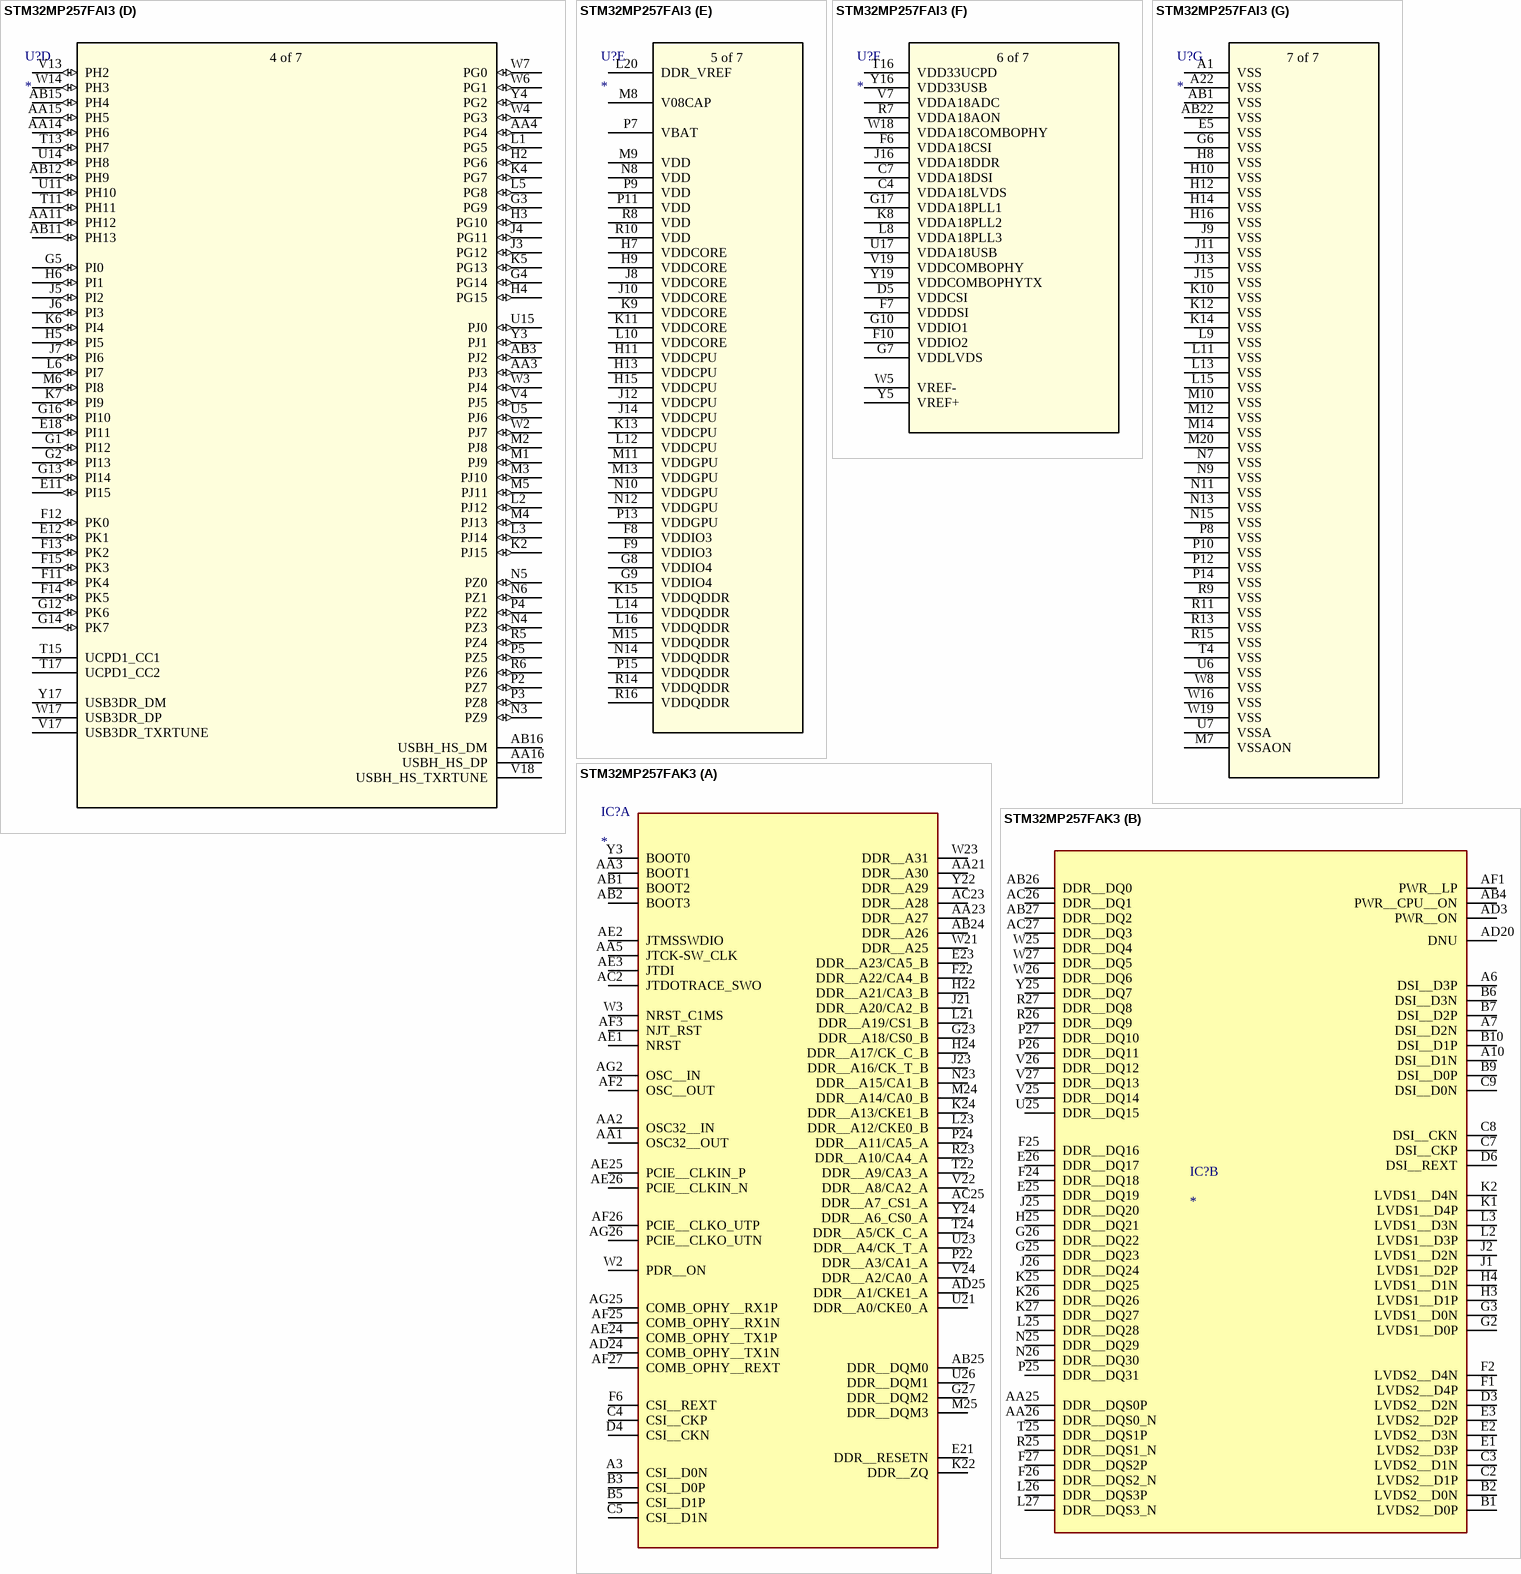
[diagram p3: symbols STM32MP257FAI3 to STM32MP257FAK3]

## STM32MP257FAI3
designator U?
Microprocessor, 32 Bit, 64 Bit, 172 I/O's, STM32, 1.5GHz, 3.6V Supply, -40 to 125°C, TFBGA-436; Mfr_Name: STMicroelectronics; RefDes: RefDes; Type: Type
footprint TFBGA436_STM
part A pins: AA1 JTCK_SWCLK (in), AA2 NJTRST (in), AA18 PCIE_CLKINN (in), AA19 COMBOPHY_TX1P, AA20 COMBOPHY_RX1P, AA21 PCIE_CLKOUTP (out), AB2 JTDI (in), AB19 COMBOPHY_TX1N, AB20 COMBOPHY_RX1N, AB21 PCIE_CLKOUTN (out), B5 CSI_D0N, C5 CSI_D0P, C6 CSI_CKP, D6 CSI_CKN, D7 CSI_D1P, E6 CSI_REXT, E7 CSI_D1N, E21 DDR_DQM2 (out), F18 DDR_RESETN (out), G18 DDR_A20 (out), H17 DDR_A22 (out), H18 DDR_A17 (out), H19 DDR_A18 (out), H20 DDR_DQM3 (out), J17 DDR_A23 (out), J18 DDR_A16 (out), J19 DDR_A21 (out), K17 DDR_A19 (out), K18 DDR_A13 (out), K19 DDR_A12 (out), L17 DDR_A15 (out), L18 DDR_A14 (out), M16 DDR_A0 (out), M17 DDR_A3 (out), M18 DDR_A28 (out), M19 DDR_A5 (out), N16 DDR_A2 (out), N17 DDR_A11 (out), N18 DDR_A10 (out), N19 DDR_A4 (out), P16 DDR_A31 (out), P17 DDR_A30 (out), P18 DDR_A9 (out), P19 DDR_A8 (out), P20 DDR_DQM1 (out), R1 OSC32_IN (in), R2 OSC32_OUT (out), R3 BOOT1 (in), R4 BOOT0 (in), R17 DDR_A25 (out), R18 DDR_A27 (out), R19 DDR_A26 (out), T1 BOOT3 (in), T2 BOOT2 (in), T3 NRSTC1MS (out), T7 PDR_ON (in), T18 DDR_A6 (out), T19 DDR_A29 (out), U18 DDR_A1 (out), U19 DDR_A7 (out), V2 OSC_OUT (out), V3 OSC_IN (in), V5 ANA0, W1 JTDO-TRACESWO (out), W21 DDR_DQM0 (out), Y18 PCIE_CLKINP (in), Y20 COMBOPHY_REXT
part B pins: A2 LVDS2_D1P, A3 LVDS2_D1N, A4 LVDS2_D0P, A7 DSI_D3P, A8 DSI_CKP, AA22 21 (io), B1 LVDS2_D4P, B2 LVDS2_D4N, B3 LVDS2_D2N, B4 LVDS2_D0N, B7 DSI_D3N, B8 DSI_CKN, B9 DSI_D0N, B22 21 (io), C1 LVDS2_D3P, C2 LVDS2_D3N, C3 LVDS2_D2P, C8 DSI_D2P, C9 DSI_D0P, C21 21 (io), C22 21 (io), D1 LVDS1_D1N, D2 LVDS1_D1P, D3 LVDS1_D0N, D4 LVDS1_D0P, D8 DSI_D2N, D9 DSI_D1P, D20 21 (io), D21 21 (io), D22 21 (io), E3 LVDS1_D2P, E4 LVDS1_D2N, E8 DSI_REXT, E9 DSI_D1N, E19 21 (io), E20 21 (io), F2 LVDS1_D3P, F3 LVDS1_D3N, F4 LVDS1_D4P, F5 LVDS1_D4N, F19 21 (io), F20 21 (io), G19 21 (io), G20 21 (io), G21 21 (io), G22 21 (io), H21 21 (io), H22 21 (io), J20 21 (io), J21 21 (io), K16 21, K20 21 (io), L19 21 (io), L21 21 (io), L22 21 (io), M21 21 (io), M22 21 (io), N20 21 (io), N21 21 (io), R12 EPAD, R20 21 (io), R21 21 (io), R22 21 (io), T5 PWR_ON (out), T6 PWR_CPU_ON (out), T20 21 (io), T21 21 (io), T22 21 (io), U3 NRST (io), U4 PWR_LP (out), U16 DNU, U20 21 (io), U21 21 (io), V6 EPAD, V16 EPAD, V20 21 (io), W20 21 (io), W22 21 (io), Y1 JTMS_SWDIO (io), Y21 21 (io), Y22 21 (io)
part C pins: A11 PB10 (io), A12 PB9 (io), A15 PD6 (io), A16 PE0 (io), A19 PE10 (io), A20 PE14 (io), A21 PD12 (io), AA6 PF10 (io), AA7 PF9 (io), AA8 PF8 (io), AA10 PC6 (io), AA12 PC0 (io), AB4 PB15 (io), AB7 PC11 (io), AB8 PF6 (io), B11 PB5 (io), B12 PB11 (io), B13 PD9 (io), B15 PD5 (io), B16 PE1 (io), B17 PE4 (io), B19 PE13 (io), B20 PB12 (io), B21 PD13 (io), C10 PB2 (io), C11 PB0 (io), C12 PB6 (io), C13 PD8 (io), C14 PD4 (io), C15 PD3 (io), C16 PE2 (io), C17 PE5 (io), C18 PE8 (io), C19 PE12 (io), C20 PB14 (io), D10 PB4 (io), D11 PB1 (io), D12 PB7 (io), D13 PD10 (io), D14 PD0 (io), D15 PD7 (io), D16 PE3 (io), D17 PE7 (io), D18 PE9 (io), D19 PB13 (io), E10 PB3 (io), E13 PD11 (io), E14 PD2 (io), E15 PD1 (io), E16 PE6 (io), E17 PE11 (io), F16 PD15 (io), F17 PE15 (io), G11 PB8 (io), G15 PD14 (io), H1 PF14 (io), K3 PF12 (io), L4 PF13 (io), L7 PF15 (io), P6 PC13 (io), T8 PC10 (io), T9 PF7 (io), T10 PA15 (io), T12 PA9 (io), T14 PA3 (io), U8 PC9 (io), U9 PC5 (io), U10 PA14 (io), U12 PA12 (io), U13 PA10 (io), V8 PC8 (io), V9 PC4 (io), V10 PF2 (io), V11 PC1 (io), V12 PF0 (io), V14 PA6 (io), V15 PA1 (io), W9 PC3 (io), W10 PF3 (io), W11 PF1 (io), W12 PA11 (io), W13 PA2 (io), W15 PA8 (io), Y2 PA0 (io), Y6 PF11 (io), Y7 PC12 (io), Y8 PC7 (io), Y9 PF5 (io), Y10 PF4 (io), Y11 PC2 (io), Y12 PA13 (io), Y13 PA5 (io), Y14 PA7 (io), Y15 PA4 (io)
part D pins: AA3 PJ3 (io), AA4 PG4 (io), AA11 PH12 (io), AA14 PH6 (io), AA15 PH5 (io), AA16 USBH_HS_DP, AB3 PJ2 (io), AB11 PH13 (io), AB12 PH9 (io), AB15 PH4 (io), AB16 USBH_HS_DM, E11 PI15 (io), E12 PK1 (io), E18 PI11 (io), F11 PK4 (io), F12 PK0 (io), F13 PK2 (io), F14 PK5 (io), F15 PK3 (io), G1 PI12 (io), G2 PI13 (io), G3 PG9 (io), G4 PG14 (io), G5 PI0 (io), G12 PK6 (io), G13 PI14 (io), G14 PK7 (io), G16 PI10 (io), H2 PG6 (io), H3 PG10 (io), H4 PG15 (io), H5 PI5 (io), H6 PI1 (io), J3 PG12 (io), J4 PG11 (io), J5 PI2 (io), J6 PI3 (io), J7 PI6 (io), K2 PJ15 (io), K4 PG7 (io), K5 PG13 (io), K6 PI4 (io), K7 PI9 (io), L1 PG5 (io), L2 PJ12 (io), L3 PJ14 (io), L5 PG8 (io), L6 PI7 (io), M1 PJ9 (io), M2 PJ8 (io), M3 PJ10 (io), M4 PJ13 (io), M5 PJ11 (io), M6 PI8 (io), N3 PZ9 (io), N4 PZ3 (io), N5 PZ0 (io), N6 PZ1 (io), P2 PZ7 (io), P3 PZ8 (io), P4 PZ2 (io), P5 PZ5 (io), R5 PZ4 (io), R6 PZ6 (io), T11 PH11 (io), T13 PH7 (io), T15 UCPD1_CC1, T17 UCPD1_CC2, U5 PJ6 (io), U11 PH10 (io), U14 PH8 (io), U15 PJ0 (io), V4 PJ5 (io), V13 PH2 (io), V17 USB3DR_TXRTUNE, V18 USBH_HS_TXRTUNE, W2 PJ7 (io), W3 PJ4 (io), W4 PG3 (io), W6 PG1 (io), W7 PG0 (io), W14 PH3 (io), W17 USB3DR_DP, Y3 PJ1 (io), Y4 PG2 (io), Y17 USB3DR_DM
part E pins: F8 VDDIO3 (power), F9 VDDIO3 (power), G8 VDDIO4 (power), G9 VDDIO4 (power), H7 VDDCORE (power), H9 VDDCORE (power), H11 VDDCPU (power), H13 VDDCPU (power), H15 VDDCPU (power), J8 VDDCORE (power), J10 VDDCORE (power), J12 VDDCPU (power), J14 VDDCPU (power), K9 VDDCORE (power), K11 VDDCORE (power), K13 VDDCPU (power), K15 VDDQDDR (power), L10 VDDCORE (power), L12 VDDCPU (power), L14 VDDQDDR (power), L16 VDDQDDR (power), L20 DDR_VREF (power), M8 V08CAP (power), M9 VDD (power), M11 VDDGPU (power), M13 VDDGPU (power), M15 VDDQDDR (power), N8 VDD (power), N10 VDDGPU (power), N12 VDDGPU (power), N14 VDDQDDR (power), P7 VBAT (power), P9 VDD (power), P11 VDD (power), P13 VDDGPU (power), P15 VDDQDDR (power), R8 VDD (power), R10 VDD (power), R14 VDDQDDR (power), R16 VDDQDDR (power)
part F pins: C4 VDDA18LVDS (power), C7 VDDA18DSI (power), D5 VDDCSI (power), F6 VDDA18CSI (power), F7 VDDDSI (power), F10 VDDIO2 (power), G7 VDDLVDS (power), G10 VDDIO1 (power), G17 VDDA18PLL1 (power), J16 VDDA18DDR (power), K8 VDDA18PLL2 (power), L8 VDDA18PLL3 (power), R7 VDDA18AON (power), T16 VDD33UCPD (power), U17 VDDA18USB (power), V7 VDDA18ADC (power), V19 VDDCOMBOPHY (power), W5 VREF- (power), W18 VDDA18COMBOPHY (power), Y5 VREF+ (power), Y16 VDD33USB (power), Y19 VDDCOMBOPHYTX (power)
part G pins: A1 VSS (power), A22 VSS (power), AB1 VSS (power), AB22 VSS (power), E5 VSS (power), G6 VSS (power), H8 VSS (power), H10 VSS (power), H12 VSS (power), H14 VSS (power), H16 VSS (power), J9 VSS (power), J11 VSS (power), J13 VSS (power), J15 VSS (power), K10 VSS (power), K12 VSS (power), K14 VSS (power), L9 VSS (power), L11 VSS (power), L13 VSS (power), L15 VSS (power), M7 VSSAON (power), M10 VSS (power), M12 VSS (power), M14 VSS (power), M20 VSS (power), N7 VSS (power), N9 VSS (power), N11 VSS (power), N13 VSS (power), N15 VSS (power), P8 VSS (power), P10 VSS (power), P12 VSS (power), P14 VSS (power), R9 VSS (power), R11 VSS (power), R13 VSS (power), R15 VSS (power), T4 VSS (power), U6 VSS (power), U7 VSSA (power), W8 VSS (power), W16 VSS (power), W19 VSS (power)
part A text: 1 of 7
part B text: 2 of 7
part C text: 3 of 7
part D text: 4 of 7
part E text: 5 of 7
part F text: 6 of 7
part G text: 7 of 7

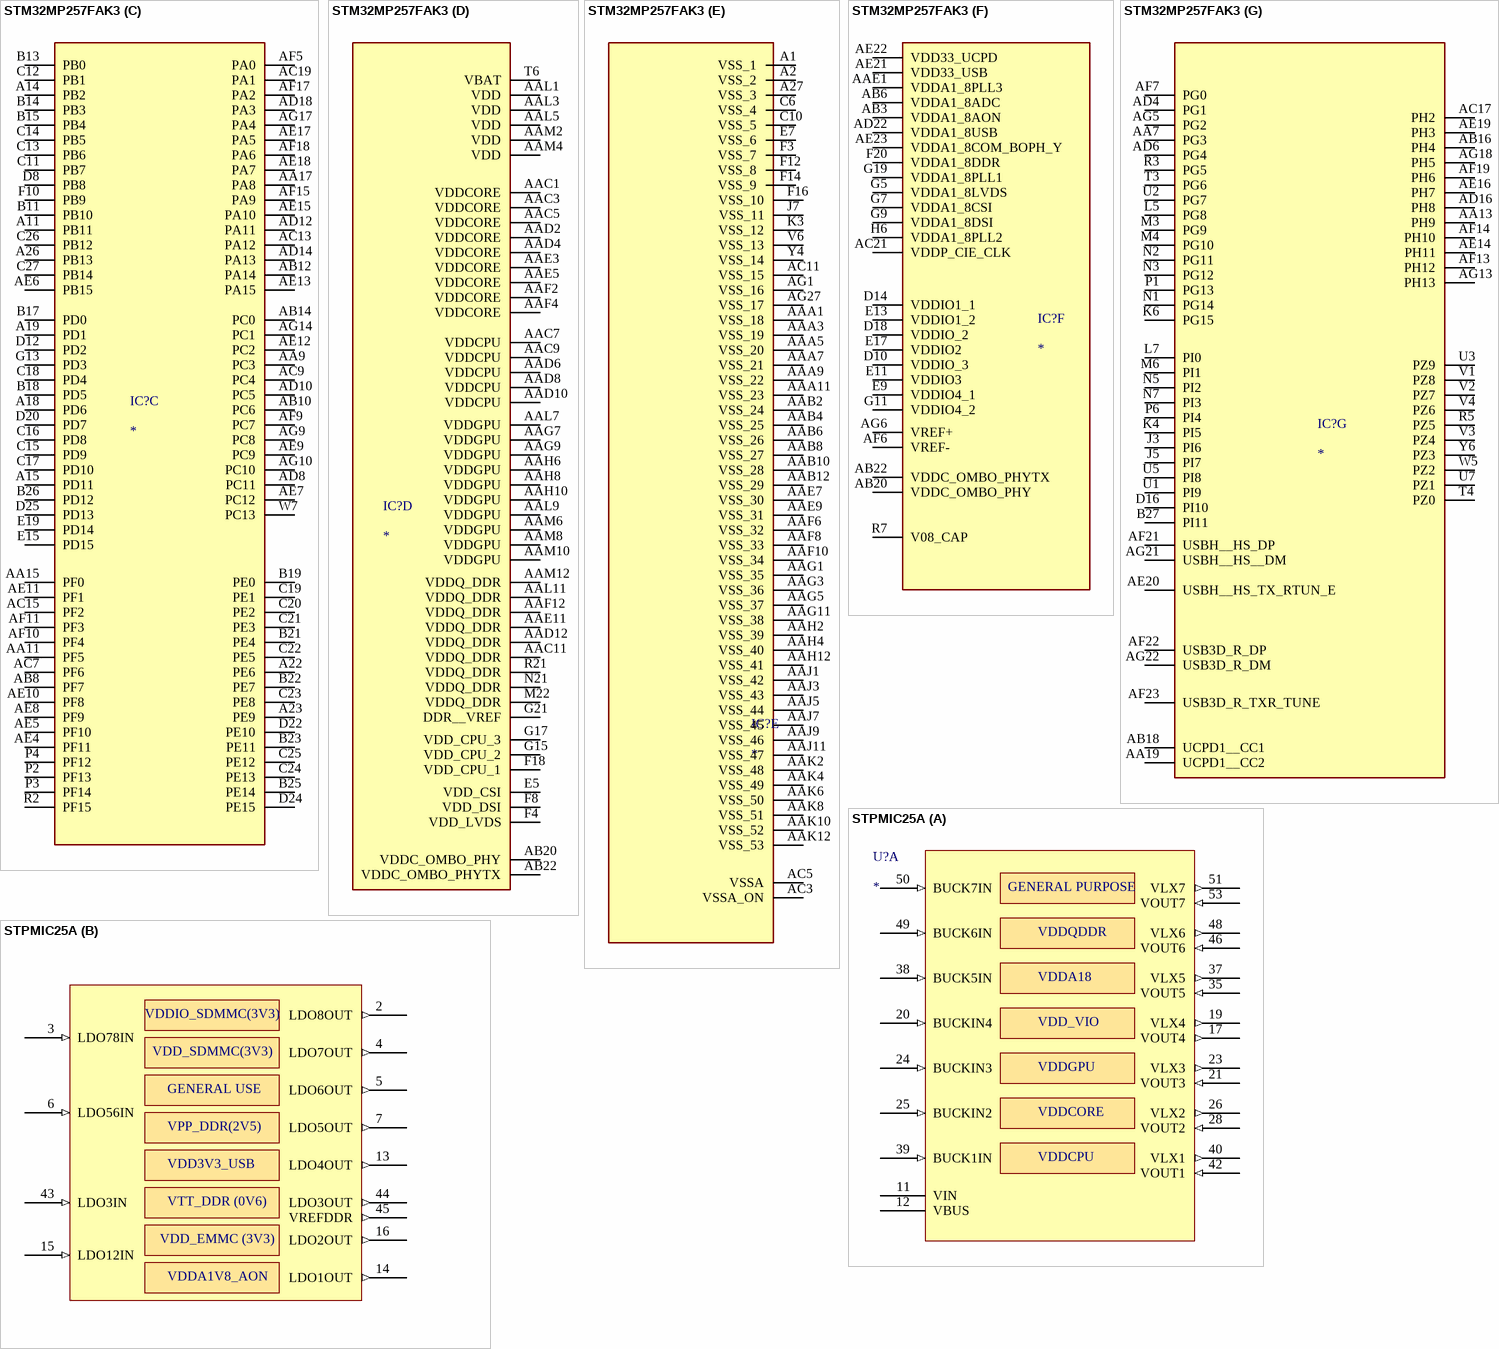
[diagram p4: symbols STM32MP257FAK3 to STPMIC25A]

## STM32MP257FAK3
designator IC?
Integrated Circuit; Manufacturer_Name: STMicroelectronics; Manufacturer_Part_Number: STM32MP257FAK3; Datasheet Link: https://www.digikey.ph/en/products/detail/stmicroelectronics/STM32MP257FAK3/24883094; Height: 1mm; Mouser Part Number: 511-STM32MP257FAK3; Mouser Price/Stock: https://www.mouser.co.uk/ProductDetail/STMicroelectronics/STM32MP257FAK3?qs=i8QVZAFTkqQulHX8Hxkfng%3D%3D; Arrow Part Number: STM32MP257FAK3; Arrow Price/Stock: https://www.arrow.com/en/products/stm32mp257fak3/stmicroelectronics?utm_currency=USD&region=nac; Supplier 1: Arrow Electronics; Supplier Part Number 1: STM32MP257FAK3
footprint STM32MP257FAK3
part A pins: A3 CSI__D0N, AA1 OSC32__OUT, AA2 OSC32__IN, AA3 BOOT1, AA5 JTCK-SW_CLK, AA21 DDR__A30, AA23 DDR__A27, AB1 BOOT2, AB2 BOOT3, AB24 DDR__A26, AB25 DDR__DQM0, AC2 JTDOTRACE_SWO, AC23 DDR__A28, AC25 DDR__A7_CS1_A, AD24 COMB_OPHY__TX1N, AD25 DDR__A1/CKE1_A, AE1 NRST, AE2 JTMSSWDIO, AE3 JTDI, AE24 COMB_OPHY__TX1P, AE25 PCIE__CLKIN_P, AE26 PCIE__CLKIN_N, AF2 OSC__OUT, AF3 NJT_RST, AF25 COMB_OPHY__RX1N, AF26 PCIE__CLKO_UTP, AF27 COMB_OPHY__REXT, AG2 OSC__IN, AG25 COMB_OPHY__RX1P, AG26 PCIE__CLKO_UTN, B3 CSI__D0P, B5 CSI__D1P, C4 CSI__CKP, C5 CSI__D1N, D4 CSI__CKN, E21 DDR__RESETN, E23 DDR__A23/CA5_B, F6 CSI__REXT, F22 DDR__A22/CA4_B, G23 DDR__A18/CS0_B, G27 DDR__DQM2, H22 DDR__A21/CA3_B, H24 DDR__A17/CK_C_B, J21 DDR__A20/CA2_B, J23 DDR__A16/CK_T_B, K22 DDR__ZQ, K24 DDR__A13/CKE1_B, L21 DDR__A19/CS1_B, L23 DDR__A12/CKE0_B, M24 DDR__A14/CA0_B, M25 DDR__DQM3, N23 DDR__A15/CA1_B, P22 DDR__A3/CA1_A, P24 DDR__A11/CA5_A, R23 DDR__A10/CA4_A, T22 DDR__A9/CA3_A, T24 DDR__A5/CK_C_A, U21 DDR__A0/CKE0_A, U23 DDR__A4/CK_T_A, U26 DDR__DQM1, V22 DDR__A8/CA2_A, V24 DDR__A2/CA0_A, W2 PDR__ON, W3 NRST_C1MS, W21 DDR__A25, W23 DDR__A31, Y3 BOOT0, Y22 DDR__A29, Y24 DDR__A6_CS0_A
part B pins: A6 DSI__D3P, A7 DSI__D2N, A10 DSI__D1N, AA25 DDR__DQS0P "5.05mm", AA26 DDR__DQS0_N, AB4 PWR__CPU__ON, AB26 DDR__DQ0, AB27 DDR__DQ2, AC26 DDR__DQ1, AC27 DDR__DQ3, AD3 PWR__ON, AD20 DNU, AF1 PWR__LP, B1 LVDS2__D0P, B2 LVDS2__D0N, B6 DSI__D3N, B7 DSI__D2P, B9 DSI__D0P, B10 DSI__D1P, C2 LVDS2__D1P, C3 LVDS2__D1N, C7 DSI__CKP, C8 DSI__CKN, C9 DSI__D0N, D3 LVDS2__D2N, D6 DSI__REXT, E1 LVDS2__D3P, E2 LVDS2__D3N, E3 LVDS2__D2P, E25 DDR__DQ19, E26 DDR__DQ17, F1 LVDS2__D4P, F2 LVDS2__D4N, F24 DDR__DQ18, F25 DDR__DQ16, F26 DDR__DQS2_N, F27 DDR__DQS2P, G2 LVDS1__D0P, G3 LVDS1__D0N, G25 DDR__DQ23, G26 DDR__DQ22, H3 LVDS1__D1P, H4 LVDS1__D1N, H25 DDR__DQ21, J1 LVDS1__D2P, J2 LVDS1__D2N, J25 DDR__DQ20, J26 DDR__DQ24, K1 LVDS1__D4P, K2 LVDS1__D4N, K25 DDR__DQ25, K26 DDR__DQ26, K27 DDR__DQ27, L2 LVDS1__D3P, L3 LVDS1__D3N, L25 DDR__DQ28, L26 DDR__DQS3P, L27 DDR__DQS3_N, N25 DDR__DQ29, N26 DDR__DQ30, P25 DDR__DQ31, P26 DDR__DQ11, P27 DDR__DQ10, R25 DDR__DQS1_N, R26 DDR__DQ9, R27 DDR__DQ8, T25 DDR__DQS1P, U25 DDR__DQ15, V25 DDR__DQ14, V26 DDR__DQ12, V27 DDR__DQ13, W25 DDR__DQ4, W26 DDR__DQ6, W27 DDR__DQ5, Y25 DDR__DQ7
part C pins: A11 PB11, A14 PB2, A15 PD11, A18 PD6, A19 PD1, A22 PE6, A23 PE9, A26 PB13, AA9 PC3, AA11 PF5, AA15 PF0, AA17 PA8, AB8 PF7, AB10 PC6, AB12 PA14, AB14 PC0, AC7 PF6, AC9 PC4, AC13 PA12, AC15 PF2, AC19 PA1, AD8 PC11, AD10 PC5, AD12 PA11, AD14 PA13, AD18 PA3, AE4 PF11, AE5 PF10, AE6 PB15, AE7 PC12, AE8 PF9, AE9 PC9, AE10 PF8, AE11 PF1, AE12 PC2, AE13 PA15, AE15 PA10, AE17 PA5, AE18 PA7, AF5 PA0, AF9 PC7, AF10 PF4, AF11 PF3, AF15 PA9, AF17 PA2, AF18 PA6, AG9 PC8, AG10 PC10, AG14 PC1, AG17 PA4, B11 PB10, B13 PB0, B14 PB3, B15 PB4, B17 PD0, B18 PD5, B19 PE0, B21 PE4, B22 PE7, B23 PE11, B25 PE14, B26 PD12, C11 PB7, C12 PB1, C13 PB6, C14 PB5, C15 PD9, C16 PD8, C17 PD10, C18 PD4, C19 PE1, C20 PE2, C21 PE3, C22 PE5, C23 PE8, C24 PE13, C25 PE12, C26 PB12, C27 PB14, D8 PB8, D12 PD2, D20 PD7, D22 PE10, D24 PE15, D25 PD13, E15 PD15, E19 PD14, F10 PB9, G13 PD3, P2 PF13, P3 PF14, P4 PF12, R2 PF15, W7 PC13
part D pins: AAC1 VDDCORE, AAC3 VDDCORE, AAC5 VDDCORE, AAC7 VDDCPU, AAC9 VDDCPU, AAC11 VDDQ_DDR, AAD2 VDDCORE, AAD4 VDDCORE, AAD6 VDDCPU, AAD8 VDDCPU, AAD10 VDDCPU, AAD12 VDDQ_DDR, AAE3 VDDCORE, AAE5 VDDCORE, AAE11 VDDQ_DDR, AAF2 VDDCORE, AAF4 VDDCORE, AAF12 VDDQ_DDR, AAG7 VDDGPU, AAG9 VDDGPU, AAH6 VDDGPU, AAH8 VDDGPU, AAH10 VDDGPU, AAL1 VDD, AAL3 VDD, AAL5 VDD, AAL7 VDDGPU, AAL9 VDDGPU, AAL11 VDDQ_DDR, AAM2 VDD, AAM4 VDD, AAM6 VDDGPU, AAM8 VDDGPU, AAM10 VDDGPU, AAM12 VDDQ_DDR, AB20 VDDC_OMBO_PHY, AB22 VDDC_OMBO_PHYTX, E5 VDD_CSI, F4 VDD_LVDS, F8 VDD_DSI, F18 VDD_CPU_1, G15 VDD_CPU_2, G17 VDD_CPU_3, G21 DDR__VREF, M22 VDDQ_DDR, N21 VDDQ_DDR, R21 VDDQ_DDR, T6 VBAT
part E pins: A1 VSS_1, A2 VSS_2, A27 VSS_3, AAA1 VSS_18, AAA3 VSS_19, AAA5 VSS_20, AAA7 VSS_21, AAA9 VSS_22, AAA11 VSS_23, AAB2 VSS_24, AAB4 VSS_25, AAB6 VSS_26, AAB8 VSS_27, AAB10 VSS_28, AAB12 VSS_29, AAE7 VSS_30, AAE9 VSS_31, AAF6 VSS_32, AAF8 VSS_33, AAF10 VSS_34, AAG1 VSS_35, AAG3 VSS_36, AAG5 VSS_37, AAG11 VSS_38, AAH2 VSS_39, AAH4 VSS_40, AAH12 VSS_41, AAJ1 VSS_42, AAJ3 VSS_43, AAJ5 VSS_44, AAJ7 VSS_45, AAJ9 VSS_46, AAJ11 VSS_47, AAK2 VSS_48, AAK4 VSS_49, AAK6 VSS_50, AAK8 VSS_51, AAK10 VSS_52, AAK12 VSS_53, AC3 VSSA_ON, AC5 VSSA, AC11 VSS_15, AG1 VSS_16, AG27 VSS_17, C6 VSS_4, C10 VSS_5, E7 VSS_6, F3 VSS_7, F12 VSS_8, F14 VSS_9, F16 VSS_10, J7 VSS_11, K3 VSS_12, V6 VSS_13, Y4 VSS_14
part F pins: AAE1 VDDA1_8PLL3, AB3 VDDA1_8AON, AB6 VDDA1_8ADC, AB20 VDDC_OMBO_PHY, AB22 VDDC_OMBO_PHYTX, AC21 VDDP_CIE_CLK, AD22 VDDA1_8USB, AE21 VDD33_USB, AE22 VDD33_UCPD, AE23 VDDA1_8COM_BOPH_Y, AF6 VREF-, AG6 VREF+, D10 VDDIO_3, D14 VDDIO1_1, D18 VDDIO_2, E9 VDDIO4_1, E11 VDDIO3, E13 VDDIO1_2, E17 VDDIO2, F20 VDDA1_8DDR, G5 VDDA1_8LVDS, G7 VDDA1_8CSI, G9 VDDA1_8DSI, G11 VDDIO4_2, G19 VDDA1_8PLL1, H6 VDDA1_8PLL2, R7 V08_CAP
part G pins: AA7 PG3, AA13 PH9, AA19 UCPD1__CC2, AB16 PH4, AB18 UCPD1__CC1, AC17 PH2, AD4 PG1, AD6 PG4, AD16 PH8, AE14 PH11, AE16 PH7, AE19 PH3, AE20 USBH__HS_TX_RTUN_E, AF7 PG0, AF13 PH12, AF14 PH10, AF19 PH6, AF21 USBH__HS_DP, AF22 USB3D_R_DP, AF23 USB3D_R_TXR_TUNE, AG5 PG2, AG13 PH13, AG18 PH5, AG21 USBH__HS__DM, AG22 USB3D_R_DM, B27 PI11, D16 PI10, J3 PI6, J5 PI7, K4 PI5, K6 PG15, L5 PG8, L7 PI0, M3 PG9, M4 PG10, M6 PI1, N1 PG14, N2 PG11, N3 PG12, N5 PI2, N7 PI3, P1 PG13, P6 PI4, R3 PG5, R5 PZ5, T3 PG6, T4 PZ0, U1 PI9, U2 PG7, U3 PZ9, U5 PI8, U7 PZ1, V1 PZ8, V2 PZ7, V3 PZ4, V4 PZ6, W5 PZ2, Y6 PZ3

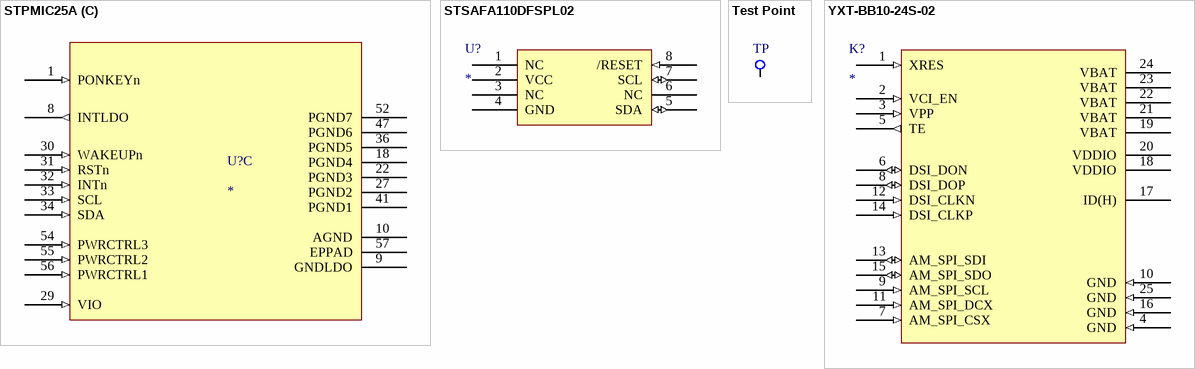
[diagram p5: symbols STPMIC25A to YXT-BB10-24S-02]

## STPMIC25A
designator U?
Supplier 1: Arrow Electronics; Supplier Part Number 1: STPMIC25APQR
footprint QFN127P600-8N
part A pins: 11 VIN (power), 12 VBUS (power), 17 VOUT4 (out), 19 VLX4 (out), 20 BUCKIN4 (in), 21 VOUT3 (in), 23 VLX3 (out), 24 BUCKIN3 (in), 25 BUCKIN2 (in), 26 VLX2 (out), 28 VOUT2 (in), 35 VOUT5 (in), 37 VLX5 (out), 38 BUCK5IN (in), 39 BUCK1IN (in), 40 VLX1 (out), 42 VOUT1 (in), 46 VOUT6 (in), 48 VLX6 (out), 49 BUCK6IN (in), 50 BUCK7IN (in), 51 VLX7 (out), 53 VOUT7 (in)
part B pins: 2 LDO8OUT (out), 3 LDO78IN (in), 4 LDO7OUT (out), 5 LDO6OUT (out), 6 LDO56IN (in), 7 LDO5OUT (out), 13 LDO4OUT (out), 14 LDO1OUT (out), 15 LDO12IN (in), 16 LDO2OUT (out), 43 LDO3IN (in), 44 LDO3OUT (out), 45 VREFDDR (out)
part C pins: 1 PONKEYn (in), 8 INTLDO (out), 9 GNDLDO (power), 10 AGND (power), 18 PGND4 (power), 22 PGND3 (power), 27 PGND2 (power), 29 VIO (in), 30 WAKEUPn (in), 31 RSTn (in), 32 INTn (in), 33 SCL (in), 34 SDA (in), 36 PGND5 (power), 41 PGND1 (power), 47 PGND6 (power), 52 PGND7 (power), 54 PWRCTRL3 (in), 55 PWRCTRL2 (in), 56 PWRCTRL1 (in), 57 EPPAD (power)
part A text: GENERAL PURPOSE; VDDQDDR; VDDA18; VDD_VIO; VDDGPU; VDDCORE; VDDCPU
part B text: VDDIO_SDMMC(3V3); VDD_SDMMC(3V3); GENERAL USE; VPP_DDR(2V5); VDD3V3_USB; VTT_DDR (0V6); VDD_EMMC (3V3); VDDA1V8_AON

## STSAFA110DFSPL02
designator U?
Authentication Chip, IoT Secure Element 8-UFDFPN (2x3); ComponentLink1Description: New link; ComponentLink1URL: https://www.digikey.com.au/en/products/detail/stmicroelectronics/STSAFA110DFSPL02/13180776; Supplier 1: Arrow Electronics; Supplier Part Number 1: STSAFA110DFSPL02
footprint STSAFE-A110 (SON, 8-Leads, Body 2.00x3.00mm, Pitch 0.50mm, Thermal Pad 0.00x0.00mm, IPC Medium Density)
pins: 1 NC, 2 VCC (power), 3 NC, 4 GND (power), 5 SDA (io), 6 NC, 7 SCL (io), 8 /RESET (in)

## Test Point
designator TP  (value not drawn)
footprint Test Point
pins: 12

## YXT-BB10-24S-02
designator K?
P=0.4mm Wire To Board / Wire To Wire Connector RoHS -> 24 pin
footprint YXT_BB10_24S_02 (Connector 24 pins, Body 0.4mmP, IPC Medium Density)
pins: 1 XRES (in), 2 VCI_EN (in), 3 VPP (in), 4 GND (in), 5 TE (out), 6 DSI_DON (io), 7 AM_SPI_CSX (in), 8 DSI_DOP (io), 9 AM_SPI_SCL (in), 10 GND (in), 11 AM_SPI_DCX (in), 12 DSI_CLKN (in), 13 AM_SPI_SDI (io), 14 DSI_CLKP (in), 15 AM_SPI_SDO (io), 16 GND (in), 17 ID(H), 18 VDDIO (power), 19 VBAT (power), 20 VDDIO (power), 21 VBAT (power), 22 VBAT (power), 23 VBAT (power), 24 VBAT (power), 25 GND (in)